# EAGLE library part IS62WVS2568FBLL-20NLI (library IS62WVS2568FBLL-20NLI)
SRAM 2Mb 256Kx8 20MHz 2.2-3.6V Serial SRAM Source: Datasheet <http://www.issi.com/WW/pdf/IS62-65WVS2568FALL-BLL.pdf>
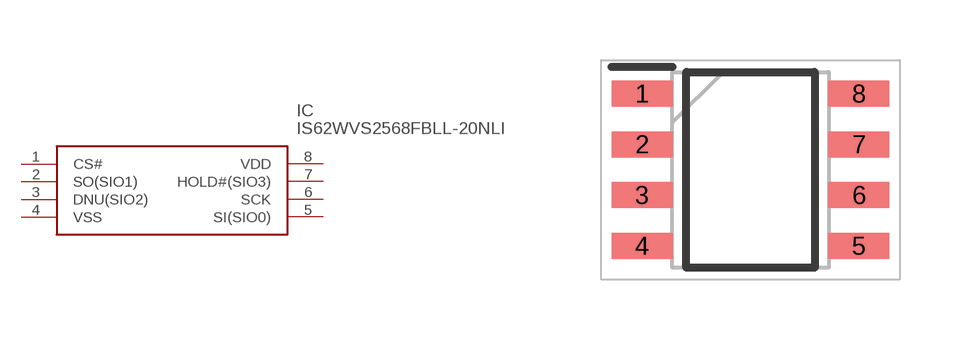
[diagram p0: symbol with the pads of SOIC127P600X175-8N; footprint SOIC127P600X175-8N]

Designator prefix IC

## IS62WVS2568FBLL-20NLI (Description: SRAM 2Mb 256Kx8 20MHz 2.2-3.6V Serial SRAM; Height: 1.75mm; Manufacturer_Name: Integrated Silicon Solution Inc.; Manufacturer_Part_Number: IS62WVS2568FBLL-20NLI; Mouser_Part_Number: 870-WVS2568FBLL20NLI; Mouser_Price-Stock: https://www.mouser.com/Search/Refine.aspx?Keyword=870-WVS2568FBLL20NLI)  [SOIC127P600X175-8N]
1  CS#
2  SO(SIO1)
3  DNU(SIO2)
4  VSS
5  SI(SIO0)
6  SCK
7  HOLD#(SIO3)
8  VDD

## Footprint SOIC127P600X175-8N (pad centres in mm)
IS62WVS2568FBLL-20NLI
smd 1.525 x 0.65: 1 -2.712,1.905; 2 -2.712,0.635; 3 -2.712,-0.635; 4 -2.712,-1.905; 5 2.712,-1.905; 6 2.712,-0.635; 7 2.712,0.635; 8 2.712,1.905